# Altium footprint library SMA-J-P-H-RA-TH1.PcbLib: 2 footprints
Each footprint in its own frame and in the unit in brackets; x right, y up, seen from the top. Pads: shape width x height; smd on the part's side, far side on the other; paste and mask are expansions set on the pad; w line width, h text height; cw(c..) or ccw(c..) is an arc to the next point about the centre after c.
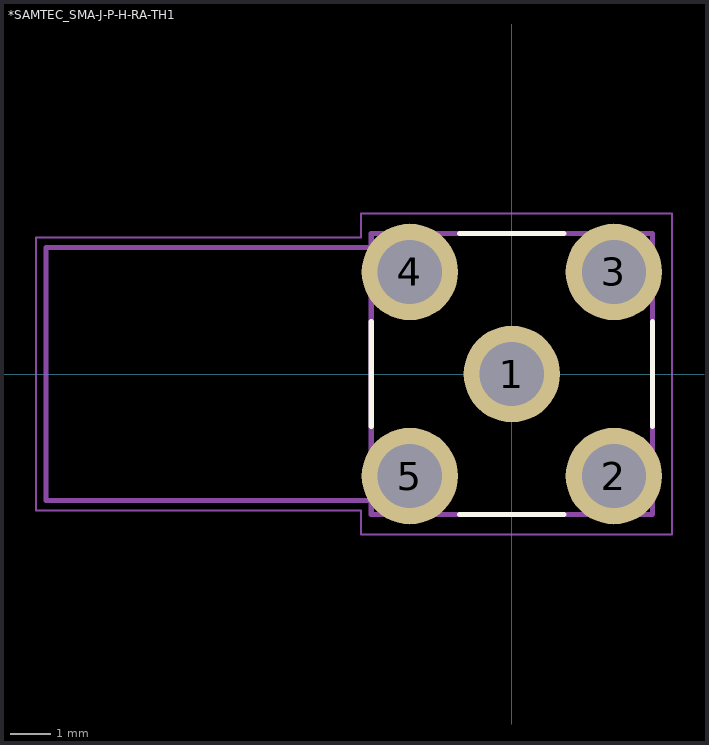
[diagram p0: the footprints below, top view; thin cyan lines are the x and y axes]

## *SAMTEC_SMA-J-P-H-RA-TH1 [mm]
pads (5):
  round 2.4 hole 1.6: 1(0,0) 2(2.54,-2.54) 3(2.54,2.54) 4(-2.54,2.54) 5(-2.54,-2.54)
Top Overlay:
  lines w0.127: -3.5,-1.3 -3.5,1.3 ; -1.3,-3.5 1.3,-3.5 ; -1.3,3.5 1.3,3.5 ; 3.5,-1.3 3.5,1.3
Mechanical 13:
  lines w0.127: -11.6,-3.15 -3.5,-3.15 ; -11.6,-3.15 -11.6,3.15 ; -11.6,-3.15 -3.5,-3.15 ; -11.6,-3.15 -11.6,3.15 ; -11.6,3.15 -3.5,3.15 ; -11.6,3.15 -3.5,3.15 ; -3.5,-3.5 -3.5,-3.15 ; -3.5,-3.5 3.5,-3.5 ; -3.5,-3.5 -3.5,-3.15 ; -3.5,-3.5 3.5,-3.5 ; -3.5,-3.15 -3.5,3.15 ; -3.5,-3.15 -3.5,3.15 ; -3.5,3.15 -3.5,3.5 ; -3.5,3.15 -3.5,3.5 ; -3.5,3.5 3.5,3.5 ; -3.5,3.5 3.5,3.5 ; 3.5,-3.5 3.5,3.5 ; 3.5,-3.5 3.5,3.5
Mechanical 15:
  lines w0.05: -11.85,-3.4 -3.75,-3.4 -3.75,-3.99 3.99,-3.99 3.99,3.99 -3.75,3.99 -3.75,3.4 -11.85,3.4 -11.85,-3.4

## PCBComponent_1 [mm]